# EAGLE library part SCREWLESS-6 (library idiotic-connectors)
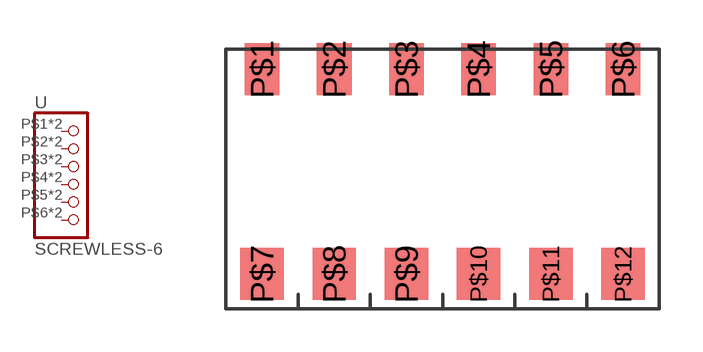
[diagram p0: symbol with the pads of AVX9706-6; footprint AVX9706-6]

Designator prefix -

## SCREWLESS-6AVX9706-6  [AVX9706-6]
P$1  1  pas
P$2  2  pas
P$3  3  pas
P$4  4  pas
P$5  5  pas
P$6  6  pas
P$7  1  pas
P$8  2  pas
P$9  3  pas
P$10  4  pas
P$11  5  pas
P$12  6  pas

## Footprint AVX9706-6 (pad centres in mm)
smd 1.2 x 1.8: P$1 -6.25,3.55; P$2 -3.75,3.55; P$3 -1.25,3.55; P$4 1.25,3.55; P$5 3.75,3.55; P$6 6.25,3.55
smd 1.5 x 1.8: P$7 -6.25,-3.55; P$8 -3.75,-3.55; P$9 -1.25,-3.55; P$10 1.25,-3.55; P$11 3.75,-3.55; P$12 6.25,-3.55